# EAGLE library part 39-30-?24? (library con-molex-mini-fit)
HEADER
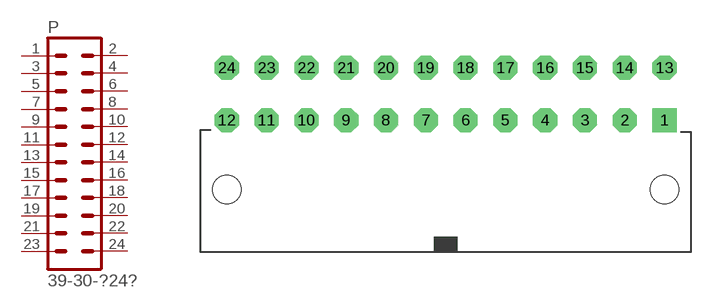
[diagram p9: symbol with the pads of 39-30-?24?; footprint 39-30-?24?]

Designator prefix P

## 39-30-24  [39-30-?24?]
1  1  pas
2  2  pas
3  3  pas
4  4  pas
5  5  pas
6  6  pas
7  7  pas
8  8  pas
9  9  pas
10  10  pas
11  11  pas
12  12  pas
13  13  pas
14  14  pas
15  15  pas
16  16  pas
17  17  pas
18  18  pas
19  19  pas
20  20  pas
21  21  pas
22  22  pas
23  23  pas
24  24  pas

## Footprint 39-30-?24? (pad centres in mm)
HEADER
drill 1.422 pad 2.54 square: 1 23.05,0
drill 1.422 pad 2.54 octagon: 2 18.86,0; 3 14.668,0; 4 10.477,0; 5 6.287,0; 6 2.095,0; 7 -2.095,0; 8 -6.287,0; 9 -10.477,0; 10 -14.668,0; 11 -18.86,0; 12 -23.05,0; 13 23.05,5.512; 14 18.86,5.512; 15 14.668,5.512; 16 10.477,5.512; 17 6.287,5.512; 18 2.095,5.512; 19 -2.095,5.512; 20 -6.287,5.512; 21 -10.477,5.512; 22 -14.668,5.512; 23 -18.86,5.512; 24 -23.05,5.512
hole 3 at -23.05,-7.3
hole 3 at 23.05,-7.3